# Altium schematic symbol library ublox.SchLib: 1 symbol
Pins are listed as number, name and electrical type; pins without a type are passive.

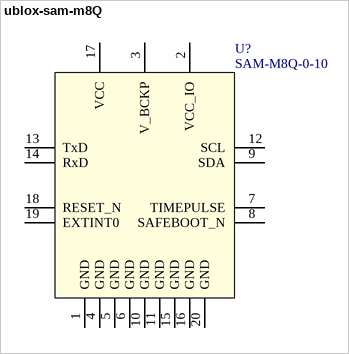
[diagram p0: symbol ublox-sam-m8Q]

## ublox-sam-m8Q
designator U?, comment SAM-M8Q-0-10
u-Blox M8 Gnss Antenna Module Tc; Octopart URL: https://octopart.com/sam-m8q-0-10-u-blox-88247750; Manufacturer Part Number: SAM-M8Q-0-10; OctopartID: 87e74baf2f475820; Case/Package: SAM-M8Q
footprint SAM-M8Q
pins: 1 GND, 2 VCC_IO, 3 V_BCKP, 4 GND, 5 GND, 6 GND, 7 TIMEPULSE, 8 SAFEBOOT_N, 9 SDA, 10 GND, 11 GND, 12 SCL, 13 TxD, 14 RxD, 15 GND, 16 GND, 17 VCC, 18 RESET_N, 19 EXTINT0, 20 GND